# Altium schematic symbol library Molex FFC - FPC Connectors (Through-Hole).SchLib: 219 symbols (part 2 of 7)
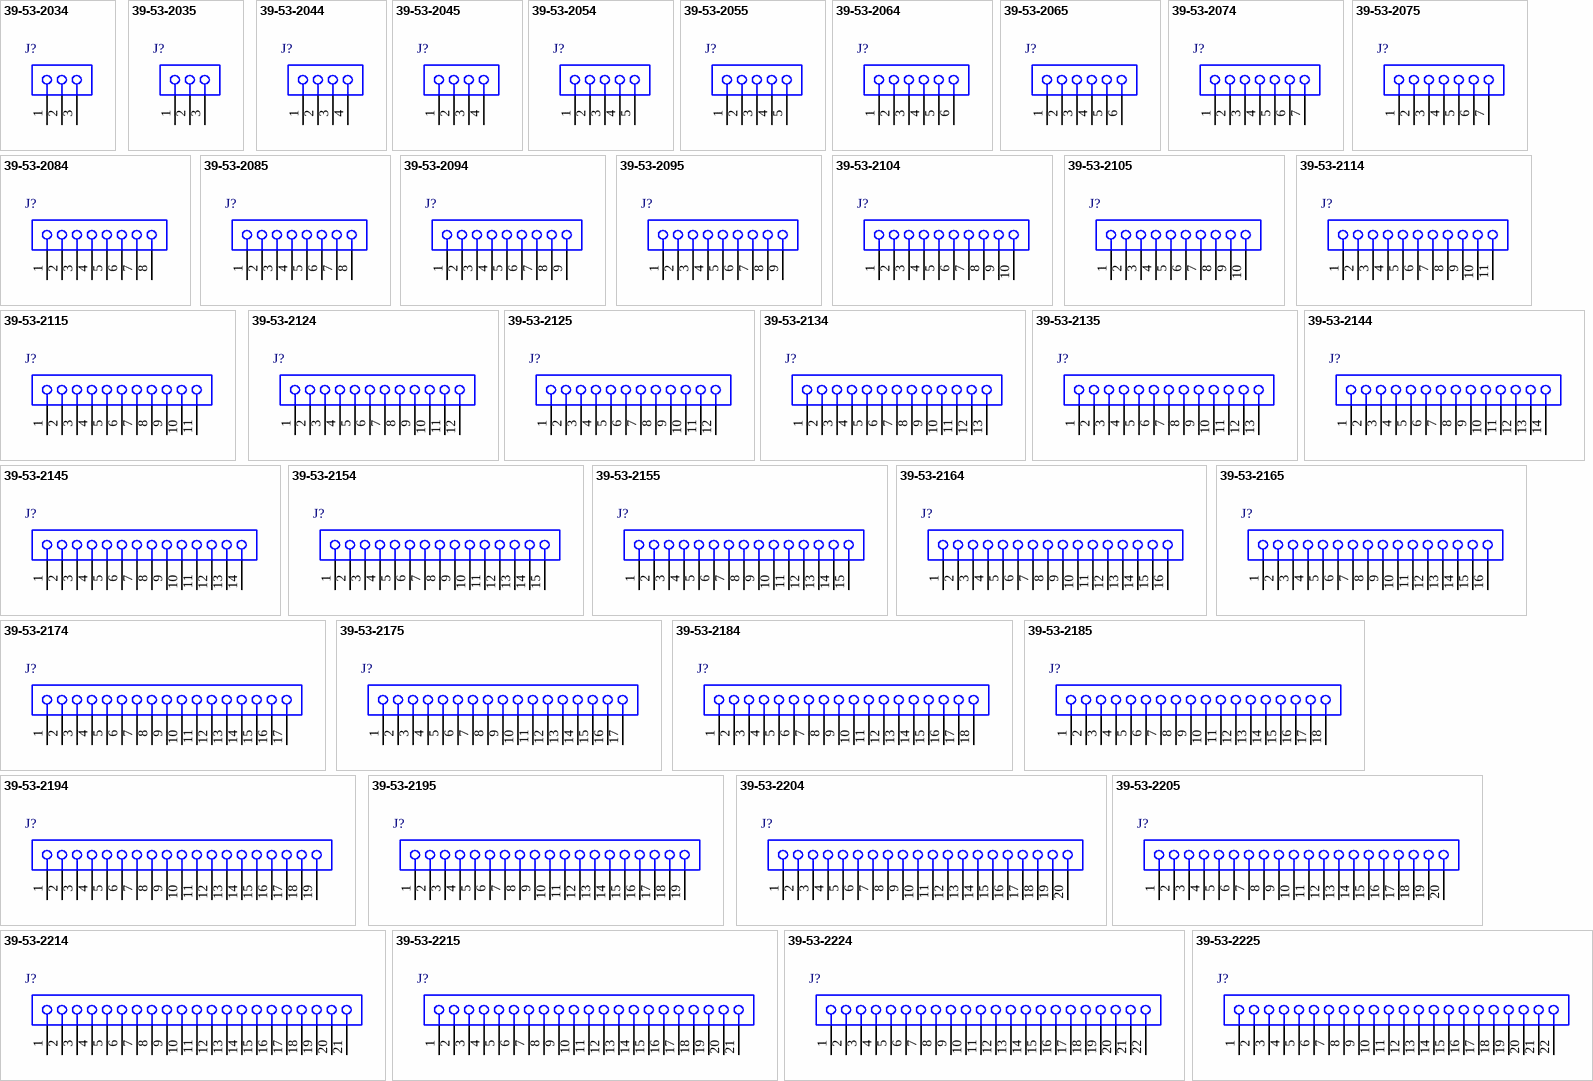
[diagram p6: symbols 39-53-2034 to 39-53-2225]

## 39-53-2214
designator J?
1.25 mm Pitch FPC Connector, 5.0 mm Mated Height, Right Angle, ZIF, Through Hole, Top Contact, 21 Circuits, -20 to 80 degC, ELV and RoHS Compliant, Tray; Manufacturer: Molex; Circuits (Loaded): 21; Current (Max per Contact): 1A; Durability (mating cycles max): 30; Entry Angle: 90degrees Angle; Mated Height: 5.00mm; Material - Metal: Phosphor Bronze; Material - Plating Mating: Tin-Bismuth; PCB Locator: No; PCB Retention: None; Pitch - Mating Interface: 1.25mm; Voltage (Max): 200V; PackageVersion: Rev. B, 04/2007; PackageReference: 39-53-2214; PackageDescription: 21-Lead FPC Connector, Pitch 1.25 mm; Contact Position: Top; Material - Plating Termination: Tin-Bismuth; Number of Rows: 1; Orientation: Right Angle; Packing: Tray; Polarized to PCB: No; RoHS: TRUE; Stackable: No; Mounting Technology: Through Hole; PartNumber: 39-53-2214; ComponentLink1Description: Manufacturer URL; ComponentLink1URL: http://www.molex.com/molex/index.jsp; ComponentLink2Description: Datasheet; ComponentLink2URL: http://www.molex.com/webdocs/datasheets/pdf/en-us/0039532214_FFC_FPC_CONNECTORS.pdf; ComponentLink3Description: Package Specification; ComponentLink3URL: http://www.molex.com/pdm_docs/sd/039532214_sd.pdf
footprint MOLX-39-53-2214 (FPC Connector, 21-Leads, Right Angle, Pitch 1.25 mm, Mated Height 5.0 mm, Through Hole)
pins: 1, 2, 3, 4, 5, 6, 7, 8, 9, 10, 11, 12, 13, 14, 15, 16, 17, 18, 19, 20, 21

## 39-53-2215
designator J?
1.25 mm Pitch FPC Connector, 7.5 mm Mated Height, Vertical, ZIF, Through Hole, 21 Circuits, -20 to 80 degC, ELV and RoHS Compliant, Tray; Manufacturer: Molex; Circuits (Loaded): 21; Current (Max per Contact): 1A; Durability (mating cycles max): 30; Mated Height: 7.50mm; Material - Metal: Phosphor Bronze; Material - Plating Mating: Tin-Bismuth; PCB Locator: No; PCB Retention: None; Pitch - Mating Interface: 1.25mm; Voltage (Max): 200V; PackageVersion: Rev. A, 12/2004; PackageReference: 39-53-2215; PackageDescription: 21-Lead FPC Connector, Pitch 1.25 mm; Contact Position: N/A; Entry Angle: Vertical; Material - Plating Termination: Tin-Bismuth; Number of Rows: 1; Orientation: Vertical; Packing: Tray; Polarized to PCB: No; RoHS: TRUE; Stackable: No; Mounting Technology: Through Hole; PartNumber: 39-53-2215; ComponentLink1Description: Manufacturer URL; ComponentLink1URL: http://www.molex.com/molex/index.jsp; ComponentLink2Description: Datasheet; ComponentLink2URL: http://www.molex.com/webdocs/datasheets/pdf/en-us/0039532215_FFC_FPC_CONNECTORS.pdf; ComponentLink3Description: Package Specification; ComponentLink3URL: http://www.molex.com/pdm_docs/sd/039532215_sd.pdf
footprint MOLX-39-53-2215 (FPC Connector, 21-Leads, Vertical, Pitch 1.25 mm, Mated Height 7.5 mm, Through Hole)
pins: 1, 2, 3, 4, 5, 6, 7, 8, 9, 10, 11, 12, 13, 14, 15, 16, 17, 18, 19, 20, 21

## 39-53-2224
designator J?
1.25 mm Pitch FPC Connector, 5.0 mm Mated Height, Right Angle, ZIF, Through Hole, Top Contact, 22 Circuits, -20 to 80 degC, ELV and RoHS Compliant, Tray; Manufacturer: Molex; Circuits (Loaded): 22; Current (Max per Contact): 1A; Durability (mating cycles max): 30; Entry Angle: 90degrees Angle; Mated Height: 5.00mm; Material - Metal: Phosphor Bronze; Material - Plating Mating: Tin-Bismuth; PCB Locator: No; PCB Retention: None; Pitch - Mating Interface: 1.25mm; Voltage (Max): 200V; PackageVersion: Rev. B, 04/2007; PackageReference: 39-53-2224; PackageDescription: 22-Lead FPC Connector, Pitch 1.25 mm; Contact Position: Top; Material - Plating Termination: Tin-Bismuth; Number of Rows: 1; Orientation: Right Angle; Packing: Tray; Polarized to PCB: No; RoHS: TRUE; Stackable: No; Mounting Technology: Through Hole; PartNumber: 39-53-2224; ComponentLink1Description: Manufacturer URL; ComponentLink1URL: http://www.molex.com/molex/index.jsp; ComponentLink2Description: Datasheet; ComponentLink2URL: http://www.molex.com/webdocs/datasheets/pdf/en-us/0039532224_FFC_FPC_CONNECTORS.pdf; ComponentLink3Description: Package Specification; ComponentLink3URL: http://www.molex.com/pdm_docs/sd/039532224_sd.pdf
footprint MOLX-39-53-2224 (FPC Connector, 22-Leads, Right Angle, Pitch 1.25 mm, Mated Height 5.0 mm, Through Hole)
pins: 1, 2, 3, 4, 5, 6, 7, 8, 9, 10, 11, 12, 13, 14, 15, 16, 17, 18, 19, 20, 21, 22

## 39-53-2225
designator J?
1.25 mm Pitch FPC Connector, 7.5 mm Mated Height, Vertical, ZIF, Through Hole, 22 Circuits, -20 to 80 degC, ELV and RoHS Compliant, Tray; Manufacturer: Molex; Circuits (Loaded): 22; Current (Max per Contact): 1A; Durability (mating cycles max): 30; Mated Height: 7.50mm; Material - Metal: Phosphor Bronze; Material - Plating Mating: Tin-Bismuth; PCB Locator: No; PCB Retention: None; Pitch - Mating Interface: 1.25mm; Voltage (Max): 200V; PackageVersion: Rev. A, 12/2004; PackageReference: 39-53-2225; PackageDescription: 22-Lead FPC Connector, Pitch 1.25 mm; Contact Position: N/A; Entry Angle: Vertical; Material - Plating Termination: Tin-Bismuth; Number of Rows: 1; Orientation: Vertical; Packing: Tray; Polarized to PCB: No; RoHS: TRUE; Stackable: No; Mounting Technology: Through Hole; PartNumber: 39-53-2225; ComponentLink1Description: Manufacturer URL; ComponentLink1URL: http://www.molex.com/molex/index.jsp; ComponentLink2Description: Datasheet; ComponentLink2URL: http://www.molex.com/webdocs/datasheets/pdf/en-us/0039532225_FFC_FPC_CONNECTORS.pdf; ComponentLink3Description: Package Specification; ComponentLink3URL: http://www.molex.com/pdm_docs/sd/039532225_sd.pdf
footprint MOLX-39-53-2225 (FPC Connector, 22-Leads, Vertical, Pitch 1.25 mm, Mated Height 7.5 mm, Through Hole)
pins: 1, 2, 3, 4, 5, 6, 7, 8, 9, 10, 11, 12, 13, 14, 15, 16, 17, 18, 19, 20, 21, 22

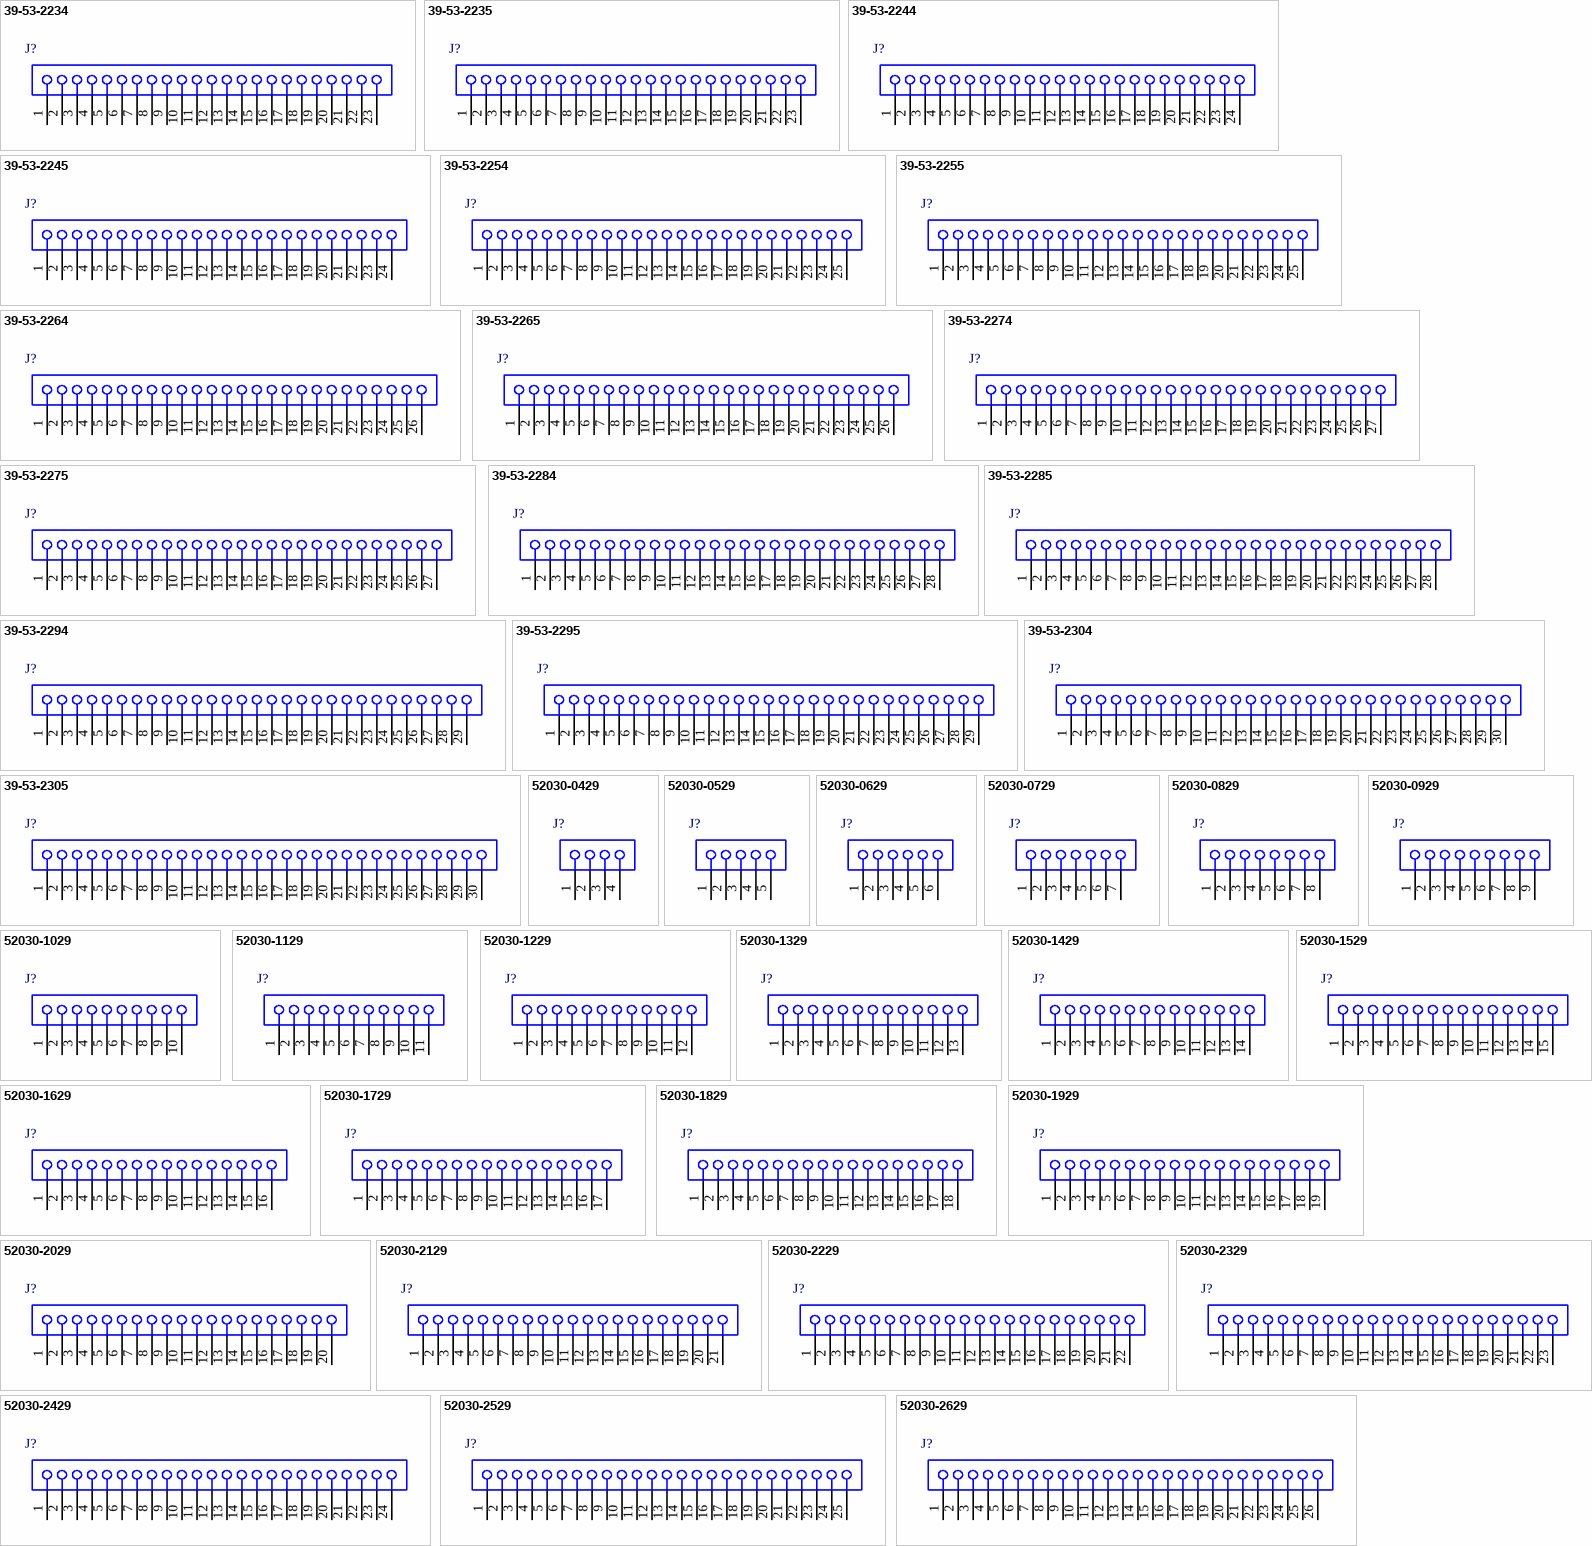
[diagram p1: symbols 39-53-2234 to 52030-2629]

## 39-53-2234
designator J?
1.25 mm Pitch FPC Connector, 5.0 mm Mated Height, Right Angle, ZIF, Through Hole, Top Contact, 23 Circuits, -20 to 80 degC, ELV and RoHS Compliant, Tray; Manufacturer: Molex; Circuits (Loaded): 23; Current (Max per Contact): 1A; Durability (mating cycles max): 30; Entry Angle: 90degrees Angle; Mated Height: 5.00mm; Material - Metal: Phosphor Bronze; Material - Plating Mating: Tin-Bismuth; PCB Locator: No; PCB Retention: None; Pitch - Mating Interface: 1.25mm; Voltage (Max): 200V; PackageVersion: Rev. B, 04/2007; PackageReference: 39-53-2234; PackageDescription: 23-Lead FPC Connector, Pitch 1.25 mm; Contact Position: Top; Material - Plating Termination: Tin-Bismuth; Number of Rows: 1; Orientation: Right Angle; Packing: Tray; Polarized to PCB: No; RoHS: TRUE; Stackable: No; Mounting Technology: Through Hole; PartNumber: 39-53-2234; ComponentLink1Description: Manufacturer URL; ComponentLink1URL: http://www.molex.com/molex/index.jsp; ComponentLink2Description: Datasheet; ComponentLink2URL: http://www.molex.com/webdocs/datasheets/pdf/en-us/0039532234_FFC_FPC_CONNECTORS.pdf; ComponentLink3Description: Package Specification; ComponentLink3URL: http://www.molex.com/pdm_docs/sd/039532234_sd.pdf
footprint MOLX-39-53-2234 (FPC Connector, 23-Leads, Right Angle, Pitch 1.25 mm, Mated Height 5.0 mm, Through Hole)
pins: 1, 2, 3, 4, 5, 6, 7, 8, 9, 10, 11, 12, 13, 14, 15, 16, 17, 18, 19, 20, 21, 22, 23

## 39-53-2235
designator J?
1.25 mm Pitch FPC Connector, 7.5 mm Mated Height, Vertical, ZIF, Through Hole, 23 Circuits, -20 to 80 degC, ELV and RoHS Compliant, Tray; Manufacturer: Molex; Circuits (Loaded): 23; Current (Max per Contact): 1A; Durability (mating cycles max): 30; Mated Height: 7.50mm; Material - Metal: Phosphor Bronze; Material - Plating Mating: Tin-Bismuth; PCB Locator: No; PCB Retention: None; Pitch - Mating Interface: 1.25mm; Voltage (Max): 200V; PackageVersion: Rev. A, 12/2004; PackageReference: 39-53-2235; PackageDescription: 23-Lead FPC Connector, Pitch 1.25 mm; Contact Position: N/A; Entry Angle: Vertical; Material - Plating Termination: Tin-Bismuth; Number of Rows: 1; Orientation: Vertical; Packing: Tray; Polarized to PCB: No; RoHS: TRUE; Stackable: No; Mounting Technology: Through Hole; PartNumber: 39-53-2235; ComponentLink1Description: Manufacturer URL; ComponentLink1URL: http://www.molex.com/molex/index.jsp; ComponentLink2Description: Datasheet; ComponentLink2URL: http://www.molex.com/webdocs/datasheets/pdf/en-us/0039532235_FFC_FPC_CONNECTORS.pdf; ComponentLink3Description: Package Specification; ComponentLink3URL: http://www.molex.com/pdm_docs/sd/039532235_sd.pdf
footprint MOLX-39-53-2235 (FPC Connector, 23-Leads, Vertical, Pitch 1.25 mm, Mated Height 7.5 mm, Through Hole)
pins: 1, 2, 3, 4, 5, 6, 7, 8, 9, 10, 11, 12, 13, 14, 15, 16, 17, 18, 19, 20, 21, 22, 23

## 39-53-2244
designator J?
1.25 mm Pitch FPC Connector, 5.0 mm Mated Height, Right Angle, ZIF, Through Hole, Top Contact, 24 Circuits, -20 to 80 degC, ELV and RoHS Compliant, Tray; Manufacturer: Molex; Circuits (Loaded): 24; Current (Max per Contact): 1A; Durability (mating cycles max): 30; Entry Angle: 90degrees Angle; Mated Height: 5.00mm; Material - Metal: Phosphor Bronze; Material - Plating Mating: Tin-Bismuth; PCB Locator: No; PCB Retention: None; Pitch - Mating Interface: 1.25mm; Voltage (Max): 200V; PackageVersion: Rev. B, 04/2007; PackageReference: 39-53-2244; PackageDescription: 24-Lead FPC Connector, Pitch 1.25 mm; Contact Position: Top; Material - Plating Termination: Tin-Bismuth; Number of Rows: 1; Orientation: Right Angle; Packing: Tray; Polarized to PCB: No; RoHS: TRUE; Stackable: No; Mounting Technology: Through Hole; PartNumber: 39-53-2244; ComponentLink1Description: Manufacturer URL; ComponentLink1URL: http://www.molex.com/molex/index.jsp; ComponentLink2Description: Datasheet; ComponentLink2URL: http://www.molex.com/webdocs/datasheets/pdf/en-us/0039532244_FFC_FPC_CONNECTORS.pdf; ComponentLink3Description: Package Specification; ComponentLink3URL: http://www.molex.com/pdm_docs/sd/039532244_sd.pdf
footprint MOLX-39-53-2244 (FPC Connector, 24-Leads, Right Angle, Pitch 1.25 mm, Mated Height 5.0 mm, Through Hole)
pins: 1, 2, 3, 4, 5, 6, 7, 8, 9, 10, 11, 12, 13, 14, 15, 16, 17, 18, 19, 20, 21, 22, 23, 24

## 39-53-2245
designator J?
1.25 mm Pitch FPC Connector, 7.5 mm Mated Height, Vertical, ZIF, Through Hole, 24 Circuits, -20 to 80 degC, ELV and RoHS Compliant, Tray; Manufacturer: Molex; Circuits (Loaded): 24; Current (Max per Contact): 1A; Durability (mating cycles max): 30; Mated Height: 7.50mm; Material - Metal: Phosphor Bronze; Material - Plating Mating: Tin-Bismuth; PCB Locator: No; PCB Retention: None; Pitch - Mating Interface: 1.25mm; Voltage (Max): 200V; PackageVersion: Rev. A, 12/2004; PackageReference: 39-53-2245; PackageDescription: 24-Lead FPC Connector, Pitch 1.25 mm; Contact Position: N/A; Entry Angle: Vertical; Material - Plating Termination: Tin-Bismuth; Number of Rows: 1; Orientation: Vertical; Packing: Tray; Polarized to PCB: No; RoHS: TRUE; Stackable: No; Mounting Technology: Through Hole; PartNumber: 39-53-2245; ComponentLink1Description: Manufacturer URL; ComponentLink1URL: http://www.molex.com/molex/index.jsp; ComponentLink2Description: Datasheet; ComponentLink2URL: http://www.molex.com/webdocs/datasheets/pdf/en-us/0039532245_FFC_FPC_CONNECTORS.pdf; ComponentLink3Description: Package Specification; ComponentLink3URL: http://www.molex.com/pdm_docs/sd/039532245_sd.pdf
footprint MOLX-39-53-2245 (FPC Connector, 24-Leads, Vertical, Pitch 1.25 mm, Mated Height 7.5 mm, Through Hole)
pins: 1, 2, 3, 4, 5, 6, 7, 8, 9, 10, 11, 12, 13, 14, 15, 16, 17, 18, 19, 20, 21, 22, 23, 24

## 39-53-2254
designator J?
1.25 mm Pitch FPC Connector, 5.0 mm Mated Height, Right Angle, ZIF, Through Hole, Top Contact, 25 Circuits, -20 to 80 degC, ELV and RoHS Compliant, Tray; Manufacturer: Molex; Circuits (Loaded): 25; Current (Max per Contact): 1A; Durability (mating cycles max): 30; Entry Angle: 90degrees Angle; Mated Height: 5.00mm; Material - Metal: Phosphor Bronze; Material - Plating Mating: Tin-Bismuth; PCB Locator: No; PCB Retention: None; Pitch - Mating Interface: 1.25mm; Voltage (Max): 200V; PackageVersion: Rev. B, 04/2007; PackageReference: 39-53-2254; PackageDescription: 25-Lead FPC Connector, Pitch 1.25 mm; Contact Position: Top; Material - Plating Termination: Tin-Bismuth; Number of Rows: 1; Orientation: Right Angle; Packing: Tray; Polarized to PCB: No; RoHS: TRUE; Stackable: No; Mounting Technology: Through Hole; PartNumber: 39-53-2254; ComponentLink1Description: Manufacturer URL; ComponentLink1URL: http://www.molex.com/molex/index.jsp; ComponentLink2Description: Datasheet; ComponentLink2URL: http://www.molex.com/webdocs/datasheets/pdf/en-us/0039532254_FFC_FPC_CONNECTORS.pdf; ComponentLink3Description: Package Specification; ComponentLink3URL: http://www.molex.com/pdm_docs/sd/039532254_sd.pdf
footprint MOLX-39-53-2254 (FPC Connector, 25-Leads, Right Angle, Pitch 1.25 mm, Mated Height 5.0 mm, Through Hole)
pins: 1, 2, 3, 4, 5, 6, 7, 8, 9, 10, 11, 12, 13, 14, 15, 16, 17, 18, 19, 20, 21, 22, 23, 24, 25

## 39-53-2255
designator J?
1.25 mm Pitch FPC Connector, 7.5 mm Mated Height, Vertical, ZIF, Through Hole, 25 Circuits, -20 to 80 degC, ELV and RoHS Compliant, Tray; Manufacturer: Molex; Circuits (Loaded): 25; Current (Max per Contact): 1A; Durability (mating cycles max): 30; Mated Height: 7.50mm; Material - Metal: Phosphor Bronze; Material - Plating Mating: Tin-Bismuth; PCB Locator: No; PCB Retention: None; Pitch - Mating Interface: 1.25mm; Voltage (Max): 200V; PackageVersion: Rev. A, 12/2004; PackageReference: 39-53-2255; PackageDescription: 25-Lead FPC Connector, Pitch 1.25 mm; Contact Position: N/A; Entry Angle: Vertical; Material - Plating Termination: Tin-Bismuth; Number of Rows: 1; Orientation: Vertical; Packing: Tray; Polarized to PCB: No; RoHS: TRUE; Stackable: No; Mounting Technology: Through Hole; PartNumber: 39-53-2255; ComponentLink1Description: Manufacturer URL; ComponentLink1URL: http://www.molex.com/molex/index.jsp; ComponentLink2Description: Datasheet; ComponentLink2URL: http://www.molex.com/webdocs/datasheets/pdf/en-us/0039532255_FFC_FPC_CONNECTORS.pdf; ComponentLink3Description: Package Specification; ComponentLink3URL: http://www.molex.com/pdm_docs/sd/039532255_sd.pdf
footprint MOLX-39-53-2255 (FPC Connector, 25-Leads, Vertical, Pitch 1.25 mm, Mated Height 7.5 mm, Through Hole)
pins: 1, 2, 3, 4, 5, 6, 7, 8, 9, 10, 11, 12, 13, 14, 15, 16, 17, 18, 19, 20, 21, 22, 23, 24, 25

## 39-53-2264
designator J?
1.25 mm Pitch FPC Connector, 5.0 mm Mated Height, Right Angle, ZIF, Through Hole, Top Contact, 26 Circuits, -20 to 80 degC, ELV and RoHS Compliant, Tray; Manufacturer: Molex; Circuits (Loaded): 26; Current (Max per Contact): 1A; Durability (mating cycles max): 30; Entry Angle: 90degrees Angle; Mated Height: 5.00mm; Material - Metal: Phosphor Bronze; Material - Plating Mating: Tin-Bismuth; PCB Locator: No; PCB Retention: None; Pitch - Mating Interface: 1.25mm; Voltage (Max): 200V; PackageVersion: Rev. B, 04/2007; PackageReference: 39-53-2264; PackageDescription: 26-Lead FPC Connector, Pitch 1.25 mm; Contact Position: Top; Material - Plating Termination: Tin-Bismuth; Number of Rows: 1; Orientation: Right Angle; Packing: Tray; Polarized to PCB: No; RoHS: TRUE; Stackable: No; Mounting Technology: Through Hole; PartNumber: 39-53-2264; ComponentLink1Description: Manufacturer URL; ComponentLink1URL: http://www.molex.com/molex/index.jsp; ComponentLink2Description: Datasheet; ComponentLink2URL: http://www.molex.com/webdocs/datasheets/pdf/en-us/0039532264_FFC_FPC_CONNECTORS.pdf; ComponentLink3Description: Package Specification; ComponentLink3URL: http://www.molex.com/pdm_docs/sd/039532264_sd.pdf
footprint MOLX-39-53-2264 (FPC Connector, 26-Leads, Right Angle, Pitch 1.25 mm, Mated Height 5.0 mm, Through Hole)
pins: 1, 2, 3, 4, 5, 6, 7, 8, 9, 10, 11, 12, 13, 14, 15, 16, 17, 18, 19, 20, 21, 22, 23, 24, 25, 26

## 39-53-2265
designator J?
1.25 mm Pitch FPC Connector, 7.5 mm Mated Height, Vertical, ZIF, Through Hole, 26 Circuits, -20 to 80 degC, ELV and RoHS Compliant, Tray; Manufacturer: Molex; Circuits (Loaded): 26; Current (Max per Contact): 1A; Durability (mating cycles max): 30; Mated Height: 7.50mm; Material - Metal: Phosphor Bronze; Material - Plating Mating: Tin-Bismuth; PCB Locator: No; PCB Retention: None; Pitch - Mating Interface: 1.25mm; Voltage (Max): 200V; PackageVersion: Rev. A, 12/2004; PackageReference: 39-53-2265; PackageDescription: 26-Lead FPC Connector, Pitch 1.25 mm; Contact Position: N/A; Entry Angle: Vertical; Material - Plating Termination: Tin-Bismuth; Number of Rows: 1; Orientation: Vertical; Packing: Tray; Polarized to PCB: No; RoHS: TRUE; Stackable: No; Mounting Technology: Through Hole; PartNumber: 39-53-2265; ComponentLink1Description: Manufacturer URL; ComponentLink1URL: http://www.molex.com/molex/index.jsp; ComponentLink2Description: Datasheet; ComponentLink2URL: http://www.molex.com/webdocs/datasheets/pdf/en-us/0039532265_FFC_FPC_CONNECTORS.pdf; ComponentLink3Description: Package Specification; ComponentLink3URL: http://www.molex.com/pdm_docs/sd/039532265_sd.pdf
footprint MOLX-39-53-2265 (FPC Connector, 26-Leads, Vertical, Pitch 1.25 mm, Mated Height 7.5 mm, Through Hole)
pins: 1, 2, 3, 4, 5, 6, 7, 8, 9, 10, 11, 12, 13, 14, 15, 16, 17, 18, 19, 20, 21, 22, 23, 24, 25, 26

## 39-53-2274
designator J?
1.25 mm Pitch FPC Connector, 5.0 mm Mated Height, Right Angle, ZIF, Through Hole, Top Contact, 27 Circuits, -20 to 80 degC, ELV and RoHS Compliant, Tray; Manufacturer: Molex; Circuits (Loaded): 27; Current (Max per Contact): 1A; Durability (mating cycles max): 30; Entry Angle: 90degrees Angle; Mated Height: 5.00mm; Material - Metal: Phosphor Bronze; Material - Plating Mating: Tin-Bismuth; PCB Locator: No; PCB Retention: None; Pitch - Mating Interface: 1.25mm; Voltage (Max): 200V; PackageVersion: Rev. B, 04/2007; PackageReference: 39-53-2274; PackageDescription: 27-Lead FPC Connector, Pitch 1.25 mm; Contact Position: Top; Material - Plating Termination: Tin-Bismuth; Number of Rows: 1; Orientation: Right Angle; Packing: Tray; Polarized to PCB: No; RoHS: TRUE; Stackable: No; Mounting Technology: Through Hole; PartNumber: 39-53-2274; ComponentLink1Description: Manufacturer URL; ComponentLink1URL: http://www.molex.com/molex/index.jsp; ComponentLink2Description: Datasheet; ComponentLink2URL: http://www.molex.com/webdocs/datasheets/pdf/en-us/0039532274_FFC_FPC_CONNECTORS.pdf; ComponentLink3Description: Package Specification; ComponentLink3URL: http://www.molex.com/pdm_docs/sd/039532274_sd.pdf
footprint MOLX-39-53-2274 (FPC Connector, 27-Leads, Right Angle, Pitch 1.25 mm, Mated Height 5.0 mm, Through Hole)
pins: 1, 2, 3, 4, 5, 6, 7, 8, 9, 10, 11, 12, 13, 14, 15, 16, 17, 18, 19, 20, 21, 22, 23, 24, 25, 26, 27

## 39-53-2275
designator J?
1.25 mm Pitch FPC Connector, 7.5 mm Mated Height, Vertical, ZIF, Through Hole, 27 Circuits, -20 to 80 degC, ELV and RoHS Compliant, Tray; Manufacturer: Molex; Circuits (Loaded): 27; Current (Max per Contact): 1A; Durability (mating cycles max): 30; Mated Height: 7.50mm; Material - Metal: Phosphor Bronze; Material - Plating Mating: Tin-Bismuth; PCB Locator: No; PCB Retention: None; Pitch - Mating Interface: 1.25mm; Voltage (Max): 200V; PackageVersion: Rev. A, 12/2004; PackageReference: 39-53-2275; PackageDescription: 27-Lead FPC Connector, Pitch 1.25 mm; Contact Position: N/A; Entry Angle: Vertical; Material - Plating Termination: Tin-Bismuth; Number of Rows: 1; Orientation: Vertical; Packing: Tray; Polarized to PCB: No; RoHS: TRUE; Stackable: No; Mounting Technology: Through Hole; PartNumber: 39-53-2275; ComponentLink1Description: Manufacturer URL; ComponentLink1URL: http://www.molex.com/molex/index.jsp; ComponentLink2Description: Datasheet; ComponentLink2URL: http://www.molex.com/webdocs/datasheets/pdf/en-us/0039532275_FFC_FPC_CONNECTORS.pdf; ComponentLink3Description: Package Specification; ComponentLink3URL: http://www.molex.com/pdm_docs/sd/039532275_sd.pdf
footprint MOLX-39-53-2275 (FPC Connector, 27-Leads, Vertical, Pitch 1.25 mm, Mated Height 7.5 mm, Through Hole)
pins: 1, 2, 3, 4, 5, 6, 7, 8, 9, 10, 11, 12, 13, 14, 15, 16, 17, 18, 19, 20, 21, 22, 23, 24, 25, 26, 27

## 39-53-2284
designator J?
1.25 mm Pitch FPC Connector, 5.0 mm Mated Height, Right Angle, ZIF, Through Hole, Top Contact, 28 Circuits, -20 to 80 degC, ELV and RoHS Compliant, Tray; Manufacturer: Molex; Circuits (Loaded): 28; Current (Max per Contact): 1A; Durability (mating cycles max): 30; Entry Angle: 90degrees Angle; Mated Height: 5.00mm; Material - Metal: Phosphor Bronze; Material - Plating Mating: Tin-Bismuth; PCB Locator: No; PCB Retention: None; Pitch - Mating Interface: 1.25mm; Voltage (Max): 200V; PackageVersion: Rev. B, 04/2007; PackageReference: 39-53-2284; PackageDescription: 28-Lead FPC Connector, Pitch 1.25 mm; Contact Position: Top; Material - Plating Termination: Tin-Bismuth; Number of Rows: 1; Orientation: Right Angle; Packing: Tray; Polarized to PCB: No; RoHS: TRUE; Stackable: No; Mounting Technology: Through Hole; PartNumber: 39-53-2284; ComponentLink1Description: Manufacturer URL; ComponentLink1URL: http://www.molex.com/molex/index.jsp; ComponentLink2Description: Datasheet; ComponentLink2URL: http://www.molex.com/webdocs/datasheets/pdf/en-us/0039532284_FFC_FPC_CONNECTORS.pdf; ComponentLink3Description: Package Specification; ComponentLink3URL: http://www.molex.com/pdm_docs/sd/039532284_sd.pdf
footprint MOLX-39-53-2284 (FPC Connector, 28-Leads, Right Angle, Pitch 1.25 mm, Mated Height 5.0 mm, Through Hole)
pins: 1, 2, 3, 4, 5, 6, 7, 8, 9, 10, 11, 12, 13, 14, 15, 16, 17, 18, 19, 20, 21, 22, 23, 24, 25, 26, 27, 28

## 39-53-2285
designator J?
1.25 mm Pitch FPC Connector, 7.5 mm Mated Height, Vertical, ZIF, Through Hole, 28 Circuits, -20 to 80 degC, ELV and RoHS Compliant, Tray; Manufacturer: Molex; Circuits (Loaded): 28; Current (Max per Contact): 1A; Durability (mating cycles max): 30; Mated Height: 7.50mm; Material - Metal: Phosphor Bronze; Material - Plating Mating: Tin-Bismuth; PCB Locator: No; PCB Retention: None; Pitch - Mating Interface: 1.25mm; Voltage (Max): 200V; PackageVersion: Rev. A, 12/2004; PackageReference: 39-53-2285; PackageDescription: 28-Lead FPC Connector, Pitch 1.25 mm; Contact Position: N/A; Entry Angle: Vertical; Material - Plating Termination: Tin-Bismuth; Number of Rows: 1; Orientation: Vertical; Packing: Tray; Polarized to PCB: No; RoHS: TRUE; Stackable: No; Mounting Technology: Through Hole; PartNumber: 39-53-2285; ComponentLink1Description: Manufacturer URL; ComponentLink1URL: http://www.molex.com/molex/index.jsp; ComponentLink2Description: Datasheet; ComponentLink2URL: http://www.molex.com/webdocs/datasheets/pdf/en-us/0039532285_FFC_FPC_CONNECTORS.pdf; ComponentLink3Description: Package Specification; ComponentLink3URL: http://www.molex.com/pdm_docs/sd/039532285_sd.pdf
footprint MOLX-39-53-2285 (FPC Connector, 28-Leads, Vertical, Pitch 1.25 mm, Mated Height 7.5 mm, Through Hole)
pins: 1, 2, 3, 4, 5, 6, 7, 8, 9, 10, 11, 12, 13, 14, 15, 16, 17, 18, 19, 20, 21, 22, 23, 24, 25, 26, 27, 28

## 39-53-2294
designator J?
1.25 mm Pitch FPC Connector, 5.0 mm Mated Height, Right Angle, ZIF, Through Hole, Top Contact, 29 Circuits, -20 to 80 degC, ELV and RoHS Compliant, Tray; Manufacturer: Molex; Circuits (Loaded): 29; Current (Max per Contact): 1A; Durability (mating cycles max): 30; Entry Angle: 90degrees Angle; Mated Height: 5.00mm; Material - Metal: Phosphor Bronze; Material - Plating Mating: Tin-Bismuth; PCB Locator: No; PCB Retention: None; Pitch - Mating Interface: 1.25mm; Voltage (Max): 200V; PackageVersion: Rev. B, 04/2007; PackageReference: 39-53-2294; PackageDescription: 29-Lead FPC Connector, Pitch 1.25 mm; Contact Position: Top; Material - Plating Termination: Tin-Bismuth; Number of Rows: 1; Orientation: Right Angle; Packing: Tray; Polarized to PCB: No; RoHS: TRUE; Stackable: No; Mounting Technology: Through Hole; PartNumber: 39-53-2294; ComponentLink1Description: Manufacturer URL; ComponentLink1URL: http://www.molex.com/molex/index.jsp; ComponentLink2Description: Datasheet; ComponentLink2URL: http://www.molex.com/webdocs/datasheets/pdf/en-us/0039532294_FFC_FPC_CONNECTORS.pdf; ComponentLink3Description: Package Specification; ComponentLink3URL: http://www.molex.com/pdm_docs/sd/039532294_sd.pdf
footprint MOLX-39-53-2294 (FPC Connector, 29-Leads, Right Angle, Pitch 1.25 mm, Mated Height 5.0 mm, Through Hole)
pins: 1, 2, 3, 4, 5, 6, 7, 8, 9, 10, 11, 12, 13, 14, 15, 16, 17, 18, 19, 20, 21, 22, 23, 24, 25, 26, 27, 28, 29

## 39-53-2295
designator J?
1.25 mm Pitch FPC Connector, 7.5 mm Mated Height, Vertical, ZIF, Through Hole, 29 Circuits, -20 to 80 degC, ELV and RoHS Compliant, Tray; Manufacturer: Molex; Circuits (Loaded): 29; Current (Max per Contact): 1A; Durability (mating cycles max): 30; Mated Height: 7.50mm; Material - Metal: Phosphor Bronze; Material - Plating Mating: Tin-Bismuth; PCB Locator: No; PCB Retention: None; Pitch - Mating Interface: 1.25mm; Voltage (Max): 200V; PackageVersion: Rev. A, 12/2004; PackageReference: 39-53-2295; PackageDescription: 29-Lead FPC Connector, Pitch 1.25 mm; Contact Position: N/A; Entry Angle: Vertical; Material - Plating Termination: Tin-Bismuth; Number of Rows: 1; Orientation: Vertical; Packing: Tray; Polarized to PCB: No; RoHS: TRUE; Stackable: No; Mounting Technology: Through Hole; PartNumber: 39-53-2295; ComponentLink1Description: Manufacturer URL; ComponentLink1URL: http://www.molex.com/molex/index.jsp; ComponentLink2Description: Datasheet; ComponentLink2URL: http://www.molex.com/webdocs/datasheets/pdf/en-us/0039532295_FFC_FPC_CONNECTORS.pdf; ComponentLink3Description: Package Specification; ComponentLink3URL: http://www.molex.com/pdm_docs/sd/039532295_sd.pdf
footprint MOLX-39-53-2295 (FPC Connector, 29-Leads, Vertical, Pitch 1.25 mm, Mated Height 7.5 mm, Through Hole)
pins: 1, 2, 3, 4, 5, 6, 7, 8, 9, 10, 11, 12, 13, 14, 15, 16, 17, 18, 19, 20, 21, 22, 23, 24, 25, 26, 27, 28, 29

## 39-53-2304
designator J?
1.25 mm Pitch FPC Connector, 5.0 mm Mated Height, Right Angle, ZIF, Through Hole, Top Contact, 30 Circuits, -20 to 80 degC, ELV and RoHS Compliant, Tray; Manufacturer: Molex; Circuits (Loaded): 30; Current (Max per Contact): 1A; Entry Angle: 90degrees Angle; Mated Height: 5.00mm; Material - Metal: Phosphor Bronze; Material - Plating Mating: Tin-Bismuth; PCB Locator: No; PCB Retention: None; Pitch - Mating Interface: 1.25mm; Voltage (Max): 200V; PackageVersion: Rev. B, 04/2007; PackageReference: 39-53-2304; PackageDescription: 30-Lead FPC Connector, Pitch 1.25 mm; Contact Position: Top; Durability (mating cycles max): 30; Material - Plating Termination: Tin-Bismuth; Number of Rows: 1; Orientation: Right Angle; Packing: Tray; Polarized to PCB: No; RoHS: TRUE; Stackable: No; Mounting Technology: Through Hole; PartNumber: 39-53-2304; ComponentLink1Description: Manufacturer URL; ComponentLink1URL: http://www.molex.com/molex/index.jsp; ComponentLink2Description: Datasheet; ComponentLink2URL: http://www.molex.com/webdocs/datasheets/pdf/en-us/0039532304_FFC_FPC_CONNECTORS.pdf; ComponentLink3Description: Package Specification; ComponentLink3URL: http://www.molex.com/pdm_docs/sd/039532304_sd.pdf
footprint MOLX-39-53-2304 (FPC Connector, 30-Leads, Right Angle, Pitch 1.25 mm, Mated Height 5.0 mm, Through Hole)
pins: 1, 2, 3, 4, 5, 6, 7, 8, 9, 10, 11, 12, 13, 14, 15, 16, 17, 18, 19, 20, 21, 22, 23, 24, 25, 26, 27, 28, 29, 30

## 39-53-2305
designator J?
1.25 mm Pitch FPC Connector, 7.5 mm Mated Height, Vertical, ZIF, Through Hole, 30 Circuits, -20 to 80 degC, ELV and RoHS Compliant, Tray; Manufacturer: Molex; Circuits (Loaded): 30; Current (Max per Contact): 1A; Mated Height: 7.50mm; Material - Metal: Phosphor Bronze; Material - Plating Mating: Tin-Bismuth; PCB Locator: No; PCB Retention: None; Pitch - Mating Interface: 1.25mm; Voltage (Max): 200V; PackageVersion: Rev. A, 12/2004; PackageReference: 39-53-2305; PackageDescription: 30-Lead FPC Connector, Pitch 1.25 mm; Contact Position: N/A; Durability (mating cycles max): 30; Entry Angle: Vertical; Material - Plating Termination: Tin-Bismuth; Number of Rows: 1; Orientation: Vertical; Packing: Tray; Polarized to PCB: No; RoHS: TRUE; Stackable: No; Mounting Technology: Through Hole; PartNumber: 39-53-2305; ComponentLink1Description: Manufacturer URL; ComponentLink1URL: http://www.molex.com/molex/index.jsp; ComponentLink2Description: Datasheet; ComponentLink2URL: http://www.molex.com/webdocs/datasheets/pdf/en-us/0039532305_FFC_FPC_CONNECTORS.pdf; ComponentLink3Description: Package Specification; ComponentLink3URL: http://www.molex.com/pdm_docs/sd/039532305_sd.pdf
footprint MOLX-39-53-2305 (FPC Connector, 30-Leads, Vertical, Pitch 1.25 mm, Mated Height 7.5 mm, Through Hole)
pins: 1, 2, 3, 4, 5, 6, 7, 8, 9, 10, 11, 12, 13, 14, 15, 16, 17, 18, 19, 20, 21, 22, 23, 24, 25, 26, 27, 28, 29, 30

## 52030-0429
designator J?
1.0 mm Pitch FPC Connector, 5.2 mm Mated Height, Vertical, ZIF, Through Hole, 4 Circuits, -20 to 80 degC, ELV and RoHS Compliant, Tray; Manufacturer: Molex; PartNumber: 52030-0429; Circuits (Loaded): 4; Current (Max per Contact): 1A; Durability (mating cycles max): 30; Mated Height: 5.20mm; Material - Metal: Phosphor Bronze; Material - Plating Mating: Tin-Bismuth; PCB Retention: Yes; Pitch - Mating Interface: 1.00mm; Polarized to PCB: No; Voltage (Max): 50V; PackageVersion: Rev. B, 10/2007; PackageReference: 52030-0429; PackageDescription: 4-Lead FPC Connector, Pitch 1.0 mm; Contact Position: N/A; Entry Angle: Vertical; Material - Plating Termination: Tin-Bismuth; Number of Rows: 1; Orientation: Vertical; Packing: Tray; RoHS: TRUE; Stackable: No; Mounting Technology: Through Hole; ComponentLink1Description: Manufacturer URL; ComponentLink1URL: http://www.molex.com/molex/index.jsp; ComponentLink2Description: Datasheet; ComponentLink2URL: http://www.molex.com/webdocs/datasheets/pdf/en-us/0520300429_FFC_FPC_CONNECTORS.pdf; ComponentLink3Description: Package Specification; ComponentLink3URL: http://www.molex.com/pdm_docs/sd/520300429_sd.pdf
footprint MOLX-52030-0429 (FPC Connector, 4-Leads, Vertical, Pitch 1.0 mm, Mated Height 5.2 mm, Through Hole)
pins: 1, 2, 3, 4

## 52030-0529
designator J?
1.0 mm Pitch FPC Connector, 5.2 mm Mated Height, Vertical, ZIF, Through Hole, 5 Circuits, -20 to 80 degC, ELV and RoHS Compliant, Tray; Manufacturer: Molex; PartNumber: 52030-0529; Circuits (Loaded): 5; Current (Max per Contact): 1A; Durability (mating cycles max): 30; Mated Height: 5.20mm; Material - Metal: Phosphor Bronze; Material - Plating Mating: Tin-Bismuth; PCB Retention: Yes; Pitch - Mating Interface: 1.00mm; Polarized to PCB: No; Voltage (Max): 50V; PackageVersion: Rev. B, 10/2007; PackageReference: 52030-0529; PackageDescription: 5-Lead FPC Connector, Pitch 1.0 mm; Contact Position: N/A; Entry Angle: Vertical; Material - Plating Termination: Tin-Bismuth; Number of Rows: 1; Orientation: Vertical; Packing: Tray; RoHS: TRUE; Stackable: No; Mounting Technology: Through Hole; ComponentLink1Description: Manufacturer URL; ComponentLink1URL: http://www.molex.com/molex/index.jsp; ComponentLink2Description: Datasheet; ComponentLink2URL: http://www.molex.com/webdocs/datasheets/pdf/en-us/0520300529_FFC_FPC_CONNECTORS.pdf; ComponentLink3Description: Package Specification; ComponentLink3URL: http://www.molex.com/pdm_docs/sd/520300529_sd.pdf
footprint MOLX-52030-0529 (FPC Connector, 5-Leads, Vertical, Pitch 1.0 mm, Mated Height 5.2 mm, Through Hole)
pins: 1, 2, 3, 4, 5

## 52030-0629
designator J?
1.0 mm Pitch FPC Connector, 5.2 mm Mated Height, Vertical, ZIF, Through Hole, 6 Circuits, -20 to 80 degC, ELV and RoHS Compliant, Tray; Manufacturer: Molex; PartNumber: 52030-0629; Circuits (Loaded): 6; Current (Max per Contact): 1A; Durability (mating cycles max): 30; Mated Height: 5.20mm; Material - Metal: Phosphor Bronze; Material - Plating Mating: Tin-Bismuth; PCB Retention: Yes; Pitch - Mating Interface: 1.00mm; Polarized to PCB: No; Voltage (Max): 50V; PackageVersion: Rev. B, 10/2007; PackageReference: 52030-0629; PackageDescription: 6-Lead FPC Connector, Pitch 1.0 mm; Contact Position: N/A; Entry Angle: Vertical; Material - Plating Termination: Tin-Bismuth; Number of Rows: 1; Orientation: Vertical; Packing: Tray; RoHS: TRUE; Stackable: No; Mounting Technology: Through Hole; ComponentLink1Description: Manufacturer URL; ComponentLink1URL: http://www.molex.com/molex/index.jsp; ComponentLink2Description: Datasheet; ComponentLink2URL: http://www.molex.com/webdocs/datasheets/pdf/en-us/0520300629_FFC_FPC_CONNECTORS.pdf; ComponentLink3Description: Package Specification; ComponentLink3URL: http://www.molex.com/pdm_docs/sd/520300629_sd.pdf
footprint MOLX-52030-0629 (FPC Connector, 6-Leads, Vertical, Pitch 1.0 mm, Mated Height 5.2 mm, Through Hole)
pins: 1, 2, 3, 4, 5, 6

## 52030-0729
designator J?
1.0 mm Pitch FPC Connector, 5.2 mm Mated Height, Vertical, ZIF, Through Hole, 7 Circuits, -20 to 80 degC, ELV and RoHS Compliant, Tray; Manufacturer: Molex; PartNumber: 52030-0729; Circuits (Loaded): 7; Current (Max per Contact): 1A; Durability (mating cycles max): 30; Mated Height: 5.20mm; Material - Metal: Phosphor Bronze; Material - Plating Mating: Tin-Bismuth; PCB Retention: Yes; Pitch - Mating Interface: 1.00mm; Polarized to PCB: No; Voltage (Max): 50V; PackageVersion: Rev. B, 10/2007; PackageReference: 52030-0729; PackageDescription: 7-Lead FPC Connector, Pitch 1.0 mm; Contact Position: N/A; Entry Angle: Vertical; Material - Plating Termination: Tin-Bismuth; Number of Rows: 1; Orientation: Vertical; Packing: Tray; RoHS: TRUE; Stackable: No; Mounting Technology: Through Hole; ComponentLink1Description: Manufacturer URL; ComponentLink1URL: http://www.molex.com/molex/index.jsp; ComponentLink2Description: Datasheet; ComponentLink2URL: http://www.molex.com/webdocs/datasheets/pdf/en-us/0520300729_FFC_FPC_CONNECTORS.pdf; ComponentLink3Description: Package Specification; ComponentLink3URL: http://www.molex.com/pdm_docs/sd/520300729_sd.pdf
footprint MOLX-52030-0729 (FPC Connector, 7-Leads, Vertical, Pitch 1.0 mm, Mated Height 5.2 mm, Through Hole)
pins: 1, 2, 3, 4, 5, 6, 7

## 52030-0829
designator J?
1.0 mm Pitch FPC Connector, 5.2 mm Mated Height, Vertical, ZIF, Through Hole, 8 Circuits, -20 to 80 degC, ELV and RoHS Compliant, Tray; Manufacturer: Molex; PartNumber: 52030-0829; Circuits (Loaded): 8; Current (Max per Contact): 1A; Durability (mating cycles max): 30; Mated Height: 5.20mm; Material - Metal: Phosphor Bronze; Material - Plating Mating: Tin-Bismuth; PCB Retention: Yes; Pitch - Mating Interface: 1.00mm; Polarized to PCB: No; Voltage (Max): 50V; PackageVersion: Rev. B, 10/2007; PackageReference: 52030-0829; PackageDescription: 8-Lead FPC Connector, Pitch 1.0 mm; Contact Position: N/A; Entry Angle: Vertical; Material - Plating Termination: Tin-Bismuth; Number of Rows: 1; Orientation: Vertical; Packing: Tray; RoHS: TRUE; Stackable: No; Mounting Technology: Through Hole; ComponentLink1Description: Manufacturer URL; ComponentLink1URL: http://www.molex.com/molex/index.jsp; ComponentLink2Description: Datasheet; ComponentLink2URL: http://www.molex.com/webdocs/datasheets/pdf/en-us/0520300829_FFC_FPC_CONNECTORS.pdf; ComponentLink3Description: Package Specification; ComponentLink3URL: http://www.molex.com/pdm_docs/sd/520300829_sd.pdf
footprint MOLX-52030-0829 (FPC Connector, 8-Leads, Vertical, Pitch 1.0 mm, Mated Height 5.2 mm, Through Hole)
pins: 1, 2, 3, 4, 5, 6, 7, 8

## 52030-0929
designator J?
1.0 mm Pitch FPC Connector, 5.2 mm Mated Height, Vertical, ZIF, Through Hole, 9 Circuits, -20 to 80 degC, ELV and RoHS Compliant, Tray; Manufacturer: Molex; PartNumber: 52030-0929; Circuits (Loaded): 9; Current (Max per Contact): 1A; Durability (mating cycles max): 30; Mated Height: 5.20mm; Material - Metal: Phosphor Bronze; Material - Plating Mating: Tin-Bismuth; PCB Retention: Yes; Pitch - Mating Interface: 1.00mm; Polarized to PCB: No; Voltage (Max): 50V; PackageVersion: Rev. B, 10/2007; PackageReference: 52030-0929; PackageDescription: 9-Lead FPC Connector, Pitch 1.0 mm; Contact Position: N/A; Entry Angle: Vertical; Material - Plating Termination: Tin-Bismuth; Number of Rows: 1; Orientation: Vertical; Packing: Tray; RoHS: TRUE; Stackable: No; Mounting Technology: Through Hole; ComponentLink1Description: Manufacturer URL; ComponentLink1URL: http://www.molex.com/molex/index.jsp; ComponentLink2Description: Datasheet; ComponentLink2URL: http://www.molex.com/webdocs/datasheets/pdf/en-us/0520300929_FFC_FPC_CONNECTORS.pdf; ComponentLink3Description: Package Specification; ComponentLink3URL: http://www.molex.com/pdm_docs/sd/520300029_sd.pdf
footprint MOLX-52030-0929 (FPC Connector, 9-Leads, Vertical, Pitch 1.0 mm, Mated Height 5.2 mm, Through Hole)
pins: 1, 2, 3, 4, 5, 6, 7, 8, 9

## 52030-1029
designator J?
1.0 mm Pitch FPC Connector, 5.2 mm Mated Height, Vertical, ZIF, Through Hole, 10 Circuits, -20 to 80 degC, ELV and RoHS Compliant, Tray; Manufacturer: Molex; PartNumber: 52030-1029; Circuits (Loaded): 10; Current (Max per Contact): 1A; Durability (mating cycles max): 30; Mated Height: 5.20mm; Material - Metal: Phosphor Bronze; Material - Plating Mating: Tin-Bismuth; PCB Retention: Yes; Pitch - Mating Interface: 1.00mm; Polarized to PCB: No; Voltage (Max): 50V; PackageVersion: Rev. B, 10/2007; PackageReference: 52030-1029; PackageDescription: 10-Lead FPC Connector, Pitch 1.0 mm; Contact Position: N/A; Entry Angle: Vertical; Material - Plating Termination: Tin-Bismuth; Number of Rows: 1; Orientation: Vertical; Packing: Tray; RoHS: TRUE; Stackable: No; Mounting Technology: Through Hole; ComponentLink1Description: Manufacturer URL; ComponentLink1URL: http://www.molex.com/molex/index.jsp; ComponentLink2Description: Datasheet; ComponentLink2URL: http://www.molex.com/webdocs/datasheets/pdf/en-us/0520301029_FFC_FPC_CONNECTORS.pdf; ComponentLink3Description: Package Specification; ComponentLink3URL: http://www.molex.com/pdm_docs/sd/520301029_sd.pdf
footprint MOLX-52030-1029 (FPC Connector, 10-Leads, Vertical, Pitch 1.0 mm, Mated Height 5.2 mm, Through Hole)
pins: 1, 2, 3, 4, 5, 6, 7, 8, 9, 10

## 52030-1129
designator J?
1.0 mm Pitch FPC Connector, 5.2 mm Mated Height, Vertical, ZIF, Through Hole, 11 Circuits, -20 to 80 degC, ELV and RoHS Compliant, Tray; Manufacturer: Molex; PartNumber: 52030-1129; Circuits (Loaded): 11; Current (Max per Contact): 1A; Durability (mating cycles max): 30; Mated Height: 5.20mm; Material - Metal: Phosphor Bronze; Material - Plating Mating: Tin-Bismuth; PCB Retention: Yes; Pitch - Mating Interface: 1.00mm; Polarized to PCB: No; Voltage (Max): 50V; PackageVersion: Rev. B, 10/2007; PackageReference: 52030-1129; PackageDescription: 11-Lead FPC Connector, Pitch 1.0 mm; Contact Position: N/A; Entry Angle: Vertical; Material - Plating Termination: Tin-Bismuth; Number of Rows: 1; Orientation: Vertical; Packing: Tray; RoHS: TRUE; Stackable: No; Mounting Technology: Through Hole; ComponentLink1Description: Manufacturer URL; ComponentLink1URL: http://www.molex.com/molex/index.jsp; ComponentLink2Description: Datasheet; ComponentLink2URL: http://www.molex.com/webdocs/datasheets/pdf/en-us/0520301129_FFC_FPC_CONNECTORS.pdf; ComponentLink3Description: Package Specification; ComponentLink3URL: http://www.molex.com/pdm_docs/sd/520301129_sd.pdf
footprint MOLX-52030-1129 (FPC Connector, 11-Leads, Vertical, Pitch 1.0 mm, Mated Height 5.2 mm, Through Hole)
pins: 1, 2, 3, 4, 5, 6, 7, 8, 9, 10, 11

## 52030-1229
designator J?
1.0 mm Pitch FPC Connector, 5.2 mm Mated Height, Vertical, ZIF, Through Hole, 12 Circuits, -20 to 80 degC, ELV and RoHS Compliant, Tray; Manufacturer: Molex; PartNumber: 52030-1229; Circuits (Loaded): 12; Current (Max per Contact): 1A; Durability (mating cycles max): 30; Mated Height: 5.20mm; Material - Metal: Phosphor Bronze; Material - Plating Mating: Tin-Bismuth; PCB Retention: Yes; Pitch - Mating Interface: 1.00mm; Polarized to PCB: No; Voltage (Max): 50V; PackageVersion: Rev. B, 10/2007; PackageReference: 52030-1229; PackageDescription: 12-Lead FPC Connector, Pitch 1.0 mm; Contact Position: N/A; Entry Angle: Vertical; Material - Plating Termination: Tin-Bismuth; Number of Rows: 1; Orientation: Vertical; Packing: Tray; RoHS: TRUE; Stackable: No; Mounting Technology: Through Hole; ComponentLink1Description: Manufacturer URL; ComponentLink1URL: http://www.molex.com/molex/index.jsp; ComponentLink2Description: Datasheet; ComponentLink2URL: http://www.molex.com/webdocs/datasheets/pdf/en-us/0520301229_FFC_FPC_CONNECTORS.pdf; ComponentLink3Description: Package Specification; ComponentLink3URL: http://www.molex.com/pdm_docs/sd/520301229_sd.pdf
footprint MOLX-52030-1229 (FPC Connector, 12-Leads, Vertical, Pitch 1.0 mm, Mated Height 5.2 mm, Through Hole)
pins: 1, 2, 3, 4, 5, 6, 7, 8, 9, 10, 11, 12

## 52030-1329
designator J?
1.0 mm Pitch FPC Connector, 5.2 mm Mated Height, Vertical, ZIF, Through Hole, 13 Circuits, -20 to 80 degC, ELV and RoHS Compliant, Tray; Manufacturer: Molex; PartNumber: 52030-1329; Circuits (Loaded): 13; Current (Max per Contact): 1A; Durability (mating cycles max): 30; Mated Height: 5.20mm; Material - Metal: Phosphor Bronze; Material - Plating Mating: Tin-Bismuth; PCB Retention: Yes; Pitch - Mating Interface: 1.00mm; Polarized to PCB: No; Voltage (Max): 50V; PackageVersion: Rev. B, 10/2007; PackageReference: 52030-1329; PackageDescription: 13-Lead FPC Connector, Pitch 1.0 mm; Contact Position: N/A; Entry Angle: Vertical; Material - Plating Termination: Tin-Bismuth; Number of Rows: 1; Orientation: Vertical; Packing: Tray; RoHS: TRUE; Stackable: No; Mounting Technology: Through Hole; ComponentLink1Description: Manufacturer URL; ComponentLink1URL: http://www.molex.com/molex/index.jsp; ComponentLink2Description: Datasheet; ComponentLink2URL: http://www.molex.com/webdocs/datasheets/pdf/en-us/0520301329_FFC_FPC_CONNECTORS.pdf; ComponentLink3Description: Package Specification; ComponentLink3URL: http://www.molex.com/pdm_docs/sd/520301329_sd.pdf
footprint MOLX-52030-1329 (FPC Connector, 13-Leads, Vertical, Pitch 1.0 mm, Mated Height 5.2 mm, Through Hole)
pins: 1, 2, 3, 4, 5, 6, 7, 8, 9, 10, 11, 12, 13

## 52030-1429
designator J?
1.0 mm Pitch FPC Connector, 5.2 mm Mated Height, Vertical, ZIF, Through Hole, 14 Circuits, -20 to 80 degC, ELV and RoHS Compliant, Tray; Manufacturer: Molex; PartNumber: 52030-1429; Circuits (Loaded): 14; Current (Max per Contact): 1A; Durability (mating cycles max): 30; Mated Height: 5.20mm; Material - Metal: Phosphor Bronze; Material - Plating Mating: Tin-Bismuth; PCB Retention: Yes; Pitch - Mating Interface: 1.00mm; Polarized to PCB: No; Voltage (Max): 50V; PackageVersion: Rev. B, 10/2007; PackageReference: 52030-1429; PackageDescription: 14-Lead FPC Connector, Pitch 1.0 mm; Contact Position: N/A; Entry Angle: Vertical; Material - Plating Termination: Tin-Bismuth; Number of Rows: 1; Orientation: Vertical; Packing: Tray; RoHS: TRUE; Stackable: No; Mounting Technology: Through Hole; ComponentLink1Description: Manufacturer URL; ComponentLink1URL: http://www.molex.com/molex/index.jsp; ComponentLink2Description: Datasheet; ComponentLink2URL: http://www.molex.com/webdocs/datasheets/pdf/en-us/0520301429_FFC_FPC_CONNECTORS.pdf; ComponentLink3Description: Package Specification; ComponentLink3URL: http://www.molex.com/pdm_docs/sd/520301429_sd.pdf
footprint MOLX-52030-1429 (FPC Connector, 14-Leads, Vertical, Pitch 1.0 mm, Mated Height 5.2 mm, Through Hole)
pins: 1, 2, 3, 4, 5, 6, 7, 8, 9, 10, 11, 12, 13, 14

## 52030-1529
designator J?
1.0 mm Pitch FPC Connector, 5.2 mm Mated Height, Vertical, ZIF, Through Hole, 15 Circuits, -20 to 80 degC, ELV and RoHS Compliant, Tray; Manufacturer: Molex; PartNumber: 52030-1529; Circuits (Loaded): 15; Current (Max per Contact): 1A; Durability (mating cycles max): 30; Mated Height: 5.20mm; Material - Metal: Phosphor Bronze; Material - Plating Mating: Tin-Bismuth; PCB Retention: Yes; Pitch - Mating Interface: 1.00mm; Polarized to PCB: No; Voltage (Max): 50V; PackageVersion: Rev. B, 10/2007; PackageReference: 52030-1529; PackageDescription: 15-Lead FPC Connector, Pitch 1.0 mm; Contact Position: N/A; Entry Angle: Vertical; Material - Plating Termination: Tin-Bismuth; Number of Rows: 1; Orientation: Vertical; Packing: Tray; RoHS: TRUE; Stackable: No; Mounting Technology: Through Hole; ComponentLink1Description: Manufacturer URL; ComponentLink1URL: http://www.molex.com/molex/index.jsp; ComponentLink2Description: Datasheet; ComponentLink2URL: http://www.molex.com/webdocs/datasheets/pdf/en-us/0520301529_FFC_FPC_CONNECTORS.pdf; ComponentLink3Description: Package Specification; ComponentLink3URL: http://www.molex.com/pdm_docs/sd/520301529_sd.pdf
footprint MOLX-52030-1529 (FPC Connector, 15-Leads, Vertical, Pitch 1.0 mm, Mated Height 5.2 mm, Through Hole)
pins: 1, 2, 3, 4, 5, 6, 7, 8, 9, 10, 11, 12, 13, 14, 15

## 52030-1629
designator J?
1.0 mm Pitch FPC Connector, 5.2 mm Mated Height, Vertical, ZIF, Through Hole, 16 Circuits, -20 to 80 degC, ELV and RoHS Compliant, Tray; Manufacturer: Molex; PartNumber: 52030-1629; Circuits (Loaded): 16; Current (Max per Contact): 1A; Durability (mating cycles max): 30; Mated Height: 5.20mm; Material - Metal: Phosphor Bronze; Material - Plating Mating: Tin-Bismuth; PCB Retention: Yes; Pitch - Mating Interface: 1.00mm; Polarized to PCB: No; Voltage (Max): 50V; PackageVersion: Rev. B, 10/2007; PackageReference: 52030-1629; PackageDescription: 16-Lead FPC Connector, Pitch 1.0 mm; Contact Position: N/A; Entry Angle: Vertical; Material - Plating Termination: Tin-Bismuth; Number of Rows: 1; Orientation: Vertical; Packing: Tray; RoHS: TRUE; Stackable: No; Mounting Technology: Through Hole; ComponentLink1Description: Manufacturer URL; ComponentLink1URL: http://www.molex.com/molex/index.jsp; ComponentLink2Description: Datasheet; ComponentLink2URL: http://www.molex.com/webdocs/datasheets/pdf/en-us/0520301629_FFC_FPC_CONNECTORS.pdf; ComponentLink3Description: Package Specification; ComponentLink3URL: http://www.molex.com/pdm_docs/sd/520301629_sd.pdf
footprint MOLX-52030-1629 (FPC Connector, 16-Leads, Vertical, Pitch 1.0 mm, Mated Height 5.2 mm, Through Hole)
pins: 1, 2, 3, 4, 5, 6, 7, 8, 9, 10, 11, 12, 13, 14, 15, 16

## 52030-1729
designator J?
1.0 mm Pitch FPC Connector, 5.2 mm Mated Height, Vertical, ZIF, Through Hole, 17 Circuits, -20 to 80 degC, ELV and RoHS Compliant, Tray; Manufacturer: Molex; PartNumber: 52030-1729; Circuits (Loaded): 17; Current (Max per Contact): 1A; Durability (mating cycles max): 30; Mated Height: 5.20mm; Material - Metal: Phosphor Bronze; Material - Plating Mating: Tin-Bismuth; PCB Retention: Yes; Pitch - Mating Interface: 1.00mm; Polarized to PCB: No; Voltage (Max): 50V; PackageVersion: Rev. B, 10/2007; PackageReference: 52030-1729; PackageDescription: 17-Lead FPC Connector, Pitch 1.0 mm; Contact Position: N/A; Entry Angle: Vertical; Material - Plating Termination: Tin-Bismuth; Number of Rows: 1; Orientation: Vertical; Packing: Tray; RoHS: TRUE; Stackable: No; Mounting Technology: Through Hole; ComponentLink1Description: Manufacturer URL; ComponentLink1URL: http://www.molex.com/molex/index.jsp; ComponentLink2Description: Datasheet; ComponentLink2URL: http://www.molex.com/webdocs/datasheets/pdf/en-us/0520301729_FFC_FPC_CONNECTORS.pdf; ComponentLink3Description: Package Specification; ComponentLink3URL: http://www.molex.com/pdm_docs/sd/520301729_sd.pdf
footprint MOLX-52030-1729 (FPC Connector, 17-Leads, Vertical, Pitch 1.0 mm, Mated Height 5.2 mm, Through Hole)
pins: 1, 2, 3, 4, 5, 6, 7, 8, 9, 10, 11, 12, 13, 14, 15, 16, 17

## 52030-1829
designator J?
1.0 mm Pitch FPC Connector, 5.2 mm Mated Height, Vertical, ZIF, Through Hole, 18 Circuits, -20 to 80 degC, ELV and RoHS Compliant, Tray; Manufacturer: Molex; PartNumber: 52030-1829; Circuits (Loaded): 18; Current (Max per Contact): 1A; Durability (mating cycles max): 30; Mated Height: 5.20mm; Material - Metal: Phosphor Bronze; Material - Plating Mating: Tin-Bismuth; PCB Retention: Yes; Pitch - Mating Interface: 1.00mm; Polarized to PCB: No; Voltage (Max): 50V; PackageVersion: Rev. B, 10/2007; PackageReference: 52030-1829; PackageDescription: 18-Lead FPC Connector, Pitch 1.0 mm; Contact Position: N/A; Entry Angle: Vertical; Material - Plating Termination: Tin-Bismuth; Number of Rows: 1; Orientation: Vertical; Packing: Tray; RoHS: TRUE; Stackable: No; Mounting Technology: Through Hole; ComponentLink1Description: Manufacturer URL; ComponentLink1URL: http://www.molex.com/molex/index.jsp; ComponentLink2Description: Datasheet; ComponentLink2URL: http://www.molex.com/webdocs/datasheets/pdf/en-us/0520301829_FFC_FPC_CONNECTORS.pdf; ComponentLink3Description: Package Specification; ComponentLink3URL: http://www.molex.com/pdm_docs/sd/520301829_sd.pdf
footprint MOLX-52030-1829 (FPC Connector, 18-Leads, Vertical, Pitch 1.0 mm, Mated Height 5.2 mm, Through Hole)
pins: 1, 2, 3, 4, 5, 6, 7, 8, 9, 10, 11, 12, 13, 14, 15, 16, 17, 18